# Altium schematic symbol library EG1218.SchLib: 1 symbol
Pins are listed as number, name and electrical type; pins without a type are passive.

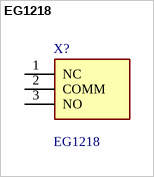
[diagram p0: symbol EG1218]

## EG1218
designator X?
Slide Switches PC MNT 3 PIN SLIDE; Manufacturer_Name: E-Switch; Geometry.Height: 7.4mm; Mouser Part Number: 612-EG1218; Mouser Price/Stock: https://www.mouser.co.uk/ProductDetail/E-Switch/EG1218?qs=xDsBkp9LkocT0c8K%252B5e%2FgA%3D%3D; Manufacturer_Part_Number: EG1218; Datasheet Link: https://sten-eswitch-13110800-production.s3.amazonaws.com/system/asset/product_line/data_sheet/119/EG.pdf
footprint EG1218
pins: 1 NC, 2 COMM, 3 NO